# EAGLE library part RFID (library MODULAR)
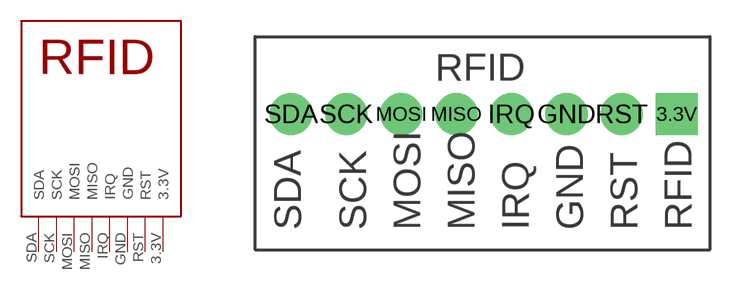
[diagram p0: symbol with the pads of RFID; footprint RFID]

Designator prefix -

## RFID  [RFID]
3.3V  3.3V
GND  GND
IRQ  IRQ
MISO  MISO
MOSI  MOSI
RST  RST
SCK  SCK
SDA  SDA

## Footprint RFID (pad centres in mm)
drill 1.3 square: 3.3V 17.78,0
drill 1.3: GND 12.7,0; IRQ 10.16,0; MISO 7.62,0; MOSI 5.08,0; RST 15.24,0; SCK 2.54,0; SDA 0,0